# Altium schematic symbol library 1933189.SchLib: 1 symbol
Pins are listed as number, name and electrical type; pins without a type are passive.

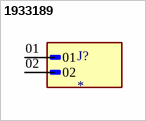
[diagram p0: symbol 1933189]

## 1933189
designator J?
Pin Strip 5mm 16AWG 320V 12A 2 Position COMBICON PST Series | Phoenix Contact 1933189; SnapEDA_Link: https://www.snapeda.com/parts/1933189/Phoenix+Contact/view-part/?ref=snap; Package: None; Value: *; MF: Phoenix Contact; MP: 1933189; Check_prices: https://www.snapeda.com/parts/1933189/Phoenix+Contact/view-part/?ref=eda
footprint PHOENIX_1933189
pins: 01, 02